# Altium schematic symbol library 527450497.SchLib: 1 symbol
Pins are listed as number, name and electrical type; pins without a type are passive.

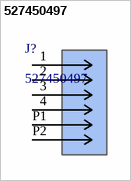
[diagram p0: symbol 527450497]

## 527450497
designator J?
Easy-On FFC/FPC Connector, 0.50mm Pitch, Slider Series, Right-Angle, Top  Contact, 2.00mm Height, 4 Circuits, Gold Plating; Manufacturer_Name: Molex Connector Corporation; Copyright: Copyright (C) 2025 Ultra Librarian. All rights reserved.; Manufacturer_Part_Number: 527450497; RefDes: RefDes; Type: Type
footprint CON_527450497_MOL
pins: 1, 2, 3, 4, P1, P2